# Altium schematic symbol library BD135.SchLib: 1 symbol
Pins are listed as number, name and electrical type; pins without a type are passive.

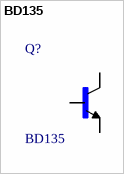
[diagram p0: symbol BD135]

## BD135
designator Q?
/ Trans GP BJT NPN 45V 1.5A 3-Pin TO-126 /; MF: ON Semiconductor; Price: None; Package: TO-126-3 NXP Semiconductors; MP: BD135; SnapEDA_Link: https://www.snapeda.com/parts/BD135/ON%20Semiconductor/view-part/?ref=snap; Availability: Unavailable; Value: *
footprint *TO229P780X300X2000-3
pins: 1 E, 2 C, 3 B